# EAGLE library part MCP4241-103E/SL (library Microchip-MCP4241-103E_SL)
Digital POT
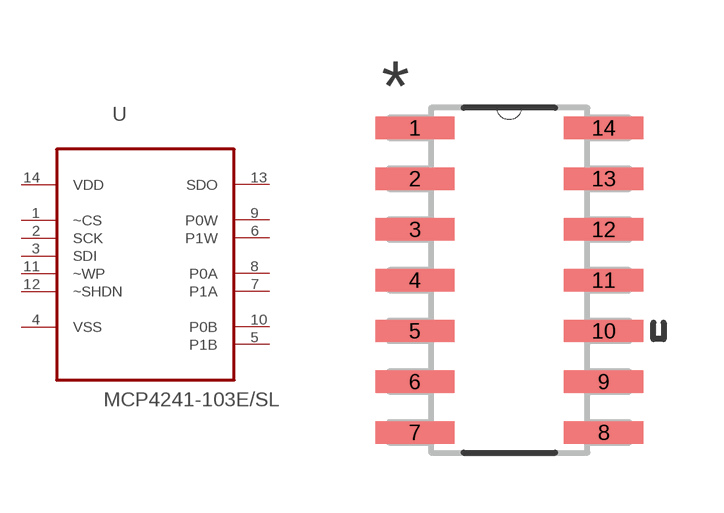
[diagram p0: symbol with the pads of SOIC127P600X175-14N; footprint SOIC127P600X175-14N]

Designator prefix -

## MCP4241-103E/SL (MPN: MCP4241-103E/SL; OC_FARNELL: 1578440; OC_NEWARK: 08N6508; PACKAGE: SOIC-14; SUPPLIER: Microchip)  [SOIC127P600X175-14N]
1  ~CS  in
2  SCK  in
3  SDI  in
4  VSS  pwr
5  P1B
6  P1W
7  P1A
8  P0A
9  P0W
10  P0B
11  ~WP  in
12  ~SHDN  in
13  SDO  out
14  VDD  pwr

## Footprint SOIC127P600X175-14N (pad centres in mm)
smd 1.981 x 0.559: 1 -2.362,3.81; 2 -2.362,2.54; 3 -2.362,1.27; 4 -2.362,0; 5 -2.362,-1.27; 6 -2.362,-2.54; 7 -2.362,-3.81; 8 2.362,-3.81; 9 2.362,-2.54; 10 2.362,-1.27; 11 2.362,0; 12 2.362,1.27; 13 2.362,2.54; 14 2.362,3.81